# EAGLE library part MINI8086_SLOT (library con-mini8086)
Mini8086 slot connector
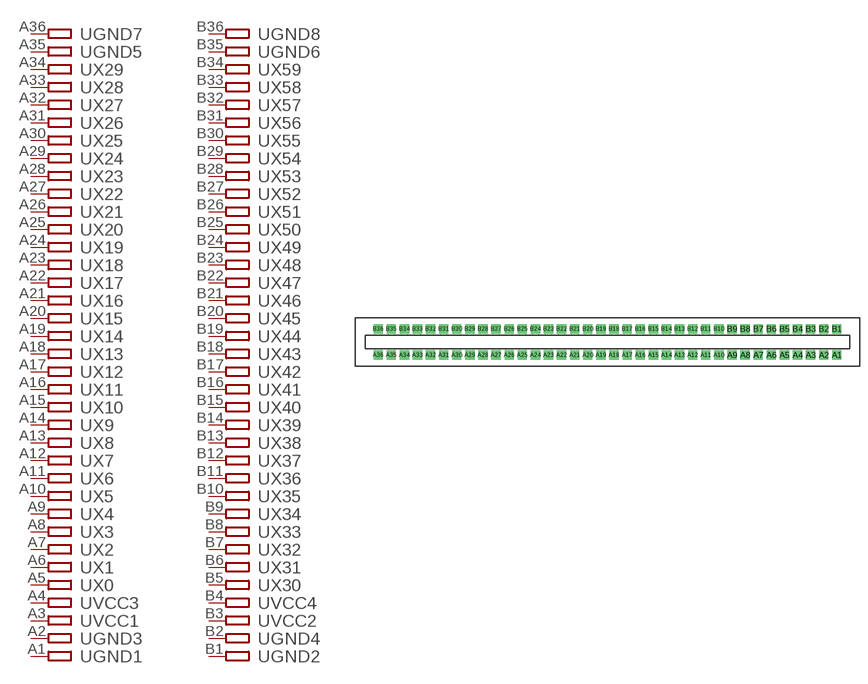
[diagram p1: symbol with the pads of CON-72; footprint CON-72]

Designator prefix -; gates GND1=ATPIN GND3=ATPIN VCC1=ATPIN VCC3=ATPIN X0=ATPIN X1=ATPIN X2=ATPIN X3=ATPIN X4=ATPIN X5=ATPIN X6=ATPIN X7=ATPIN X8=ATPIN X9=ATPIN X10=ATPIN X11=ATPIN X12=ATPIN X13=ATPIN X14=ATPIN X15=ATPIN X16=ATPIN X17=ATPIN X18=ATPIN X19=ATPIN X20=ATPIN X21=ATPIN X22=ATPIN X23=ATPIN X24=ATPIN X25=ATPIN X26=ATPIN X27=ATPIN X28=ATPIN X29=ATPIN GND5=ATPIN GND7=ATPIN GND2=ATPIN GND4=ATPIN VCC2=ATPIN VCC4=ATPIN X30=ATPIN X31=ATPIN X32=ATPIN X33=ATPIN X34=ATPIN X35=ATPIN X36=ATPIN X37=ATPIN X38=ATPIN X39=ATPIN X40=ATPIN X41=ATPIN X42=ATPIN X43=ATPIN X44=ATPIN X45=ATPIN X46=ATPIN X47=ATPIN X48=ATPIN X49=ATPIN X50=ATPIN X51=ATPIN X52=ATPIN X53=ATPIN X54=ATPIN X55=ATPIN X56=ATPIN X57=ATPIN X58=ATPIN X59=ATPIN GND6=ATPIN GND8=ATPIN

## MINI8086_SLOT  [CON-72]
A1  GND1:P
A2  GND3:P
A3  VCC1:P
A4  VCC3:P
A5  X0:P
A6  X1:P
A7  X2:P
A8  X3:P
A9  X4:P
A10  X5:P
A11  X6:P
A12  X7:P
A13  X8:P
A14  X9:P
A15  X10:P
A16  X11:P
A17  X12:P
A18  X13:P
A19  X14:P
A20  X15:P
A21  X16:P
A22  X17:P
A23  X18:P
A24  X19:P
A25  X20:P
A26  X21:P
A27  X22:P
A28  X23:P
A29  X24:P
A30  X25:P
A31  X26:P
A32  X27:P
A33  X28:P
A34  X29:P
A35  GND5:P
A36  GND7:P
B1  GND2:P
B2  GND4:P
B3  VCC2:P
B4  VCC4:P
B5  X30:P
B6  X31:P
B7  X32:P
B8  X33:P
B9  X34:P
B10  X35:P
B11  X36:P
B12  X37:P
B13  X38:P
B14  X39:P
B15  X40:P
B16  X41:P
B17  X42:P
B18  X43:P
B19  X44:P
B20  X45:P
B21  X46:P
B22  X47:P
B23  X48:P
B24  X49:P
B25  X50:P
B26  X51:P
B27  X52:P
B28  X53:P
B29  X54:P
B30  X55:P
B31  X56:P
B32  X57:P
B33  X58:P
B34  X59:P
B35  GND6:P
B36  GND8:P

## Footprint CON-72 (pad centres in mm)
ISA SLOT
drill 1.2 pad 1.778 square: A1 81.28,-2.54; A2 78.74,-2.54; A3 76.2,-2.54; A4 73.66,-2.54; A5 71.12,-2.54; A6 68.58,-2.54; A7 66.04,-2.54; A8 63.5,-2.54; A9 60.96,-2.54; A10 58.42,-2.54; A11 55.88,-2.54; A12 53.34,-2.54; A13 50.8,-2.54; A14 48.26,-2.54; A15 45.72,-2.54; A16 43.18,-2.54; A17 40.64,-2.54; A18 38.1,-2.54; A19 35.56,-2.54; A20 33.02,-2.54; A21 30.48,-2.54; A22 27.94,-2.54; A23 25.4,-2.54; A24 22.86,-2.54; A25 20.32,-2.54; A26 17.78,-2.54; A27 15.24,-2.54; A28 12.7,-2.54; A29 10.16,-2.54; A30 7.62,-2.54; A31 5.08,-2.54; A32 2.54,-2.54; A33 0,-2.54; A34 -2.54,-2.54; A35 -5.08,-2.54; A36 -7.62,-2.54; B1 81.28,2.54; B2 78.74,2.54; B3 76.2,2.54; B4 73.66,2.54; B5 71.12,2.54; B6 68.58,2.54; B7 66.04,2.54; B8 63.5,2.54; B9 60.96,2.54; B10 58.42,2.54; B11 55.88,2.54; B12 53.34,2.54; B13 50.8,2.54; B14 48.26,2.54; B15 45.72,2.54; B16 43.18,2.54; B17 40.64,2.54; B18 38.1,2.54; B19 35.56,2.54; B20 33.02,2.54; B21 30.48,2.54; B22 27.94,2.54; B23 25.4,2.54; B24 22.86,2.54; B25 20.32,2.54; B26 17.78,2.54; B27 15.24,2.54; B28 12.7,2.54; B29 10.16,2.54; B30 7.62,2.54; B31 5.08,2.54; B32 2.54,2.54; B33 0,2.54; B34 -2.54,2.54; B35 -5.08,2.54; B36 -7.62,2.54